# Altium footprint library BAT_BS-7-RED.PcbLib: 1 footprints
Each footprint in its own frame and in the unit in brackets; x right, y up, seen from the top. Pads: shape width x height; smd on the part's side, far side on the other; paste and mask are expansions set on the pad; w line width, h text height; cw(c..) or ccw(c..) is an arc to the next point about the centre after c.
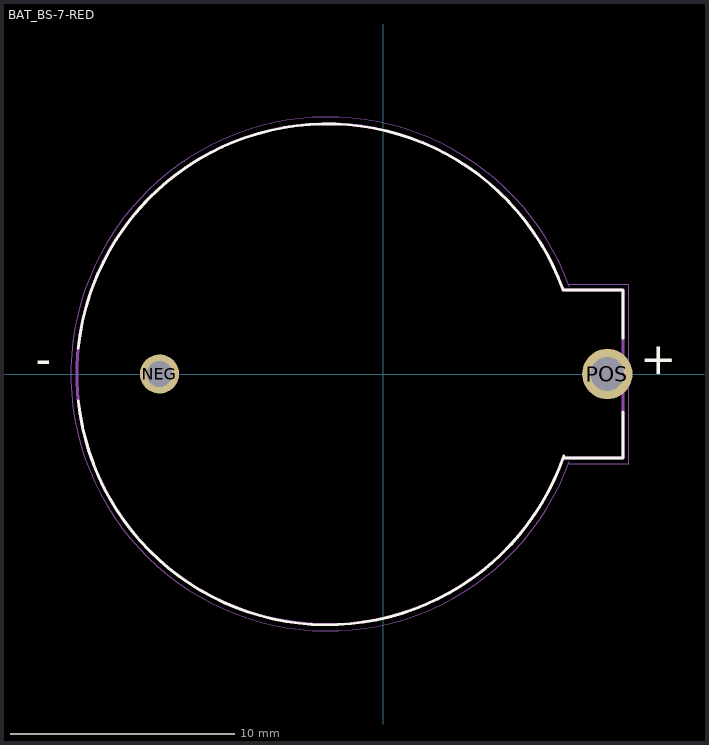
[diagram p0: the footprint, top view; thin cyan lines are the x and y axes]

## BAT_BS-7-RED [mm]
pads (2):
  round 1.755 hole 1.17: NEG(-10,0)
  round 2.25 hole 1.5: POS(10,0)
Top Overlay:
  lines w0.127: -13.633,1.155 cw(c-2.509,-0.014) 8.002,3.811 ; -13.629,-1.194 ccw(c-2.514,-0.026) 8.054,-3.664 ; 8.024,-3.75 10.699,-3.75 10.7,-1.7 ; 8.024,3.75 10.7,3.75 10.7,1.6
  text "+" at 11.474,0 h1.42
  text "-" at -15.526,0 h1.42
Mechanical 13:
  lines w0.127: 7.997,-3.825 cw(c-2.513,0) 7.997,3.825 ; 8.024,-3.75 10.699,-3.75 10.699,3.75 8.024,3.75
  text "+" at 11.474,0 h1.42
  text "-" at -15.526,0 h1.42
Mechanical 15:
  lines w0.05: 8.274,-4 10.949,-4 10.949,4 8.274,4 ; 8.301,-3.926 cw(c-2.485,0) 8.301,3.926
3D body "BS-7-RED--3DModel-STEP-56544.STEP": height 8.74, standoff -3.35, extent -13.843,-11.303 10.541,11.049